# EAGLE library part AS-ITM-00355 (library tinycircuits)
VOC Sensor, LGA
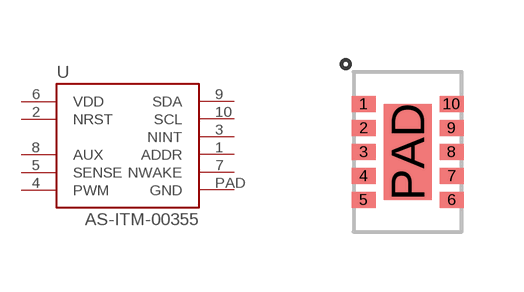
[diagram p140: symbol with the pads of CCS811; footprint CCS811]

Designator prefix U

## AS-ITM-00355 (PARTNO: AS-ITM-00355; VALUE: CCS811)  [CCS811]
1  ADDR
2  NRST
3  NINT
4  PWM
5  SENSE
6  VDD
7  NWAKE
8  AUX
9  SDA
10  SCL
PAD  GND

## Footprint CCS811 (pad centres in mm)
smd 0.6 x 0.4: 1 -1.1,1.2; 2 -1.1,0.6; 3 -1.1,0; 4 -1.1,-0.6; 5 -1.1,-1.2; 6 1.1,-1.2; 7 1.1,-0.6; 8 1.1,0; 9 1.1,0.6; 10 1.1,1.2
smd 1.2 x 2.4: PAD 0,0